# EAGLE library part FEATHERM4CAN (library FeatherCAN)
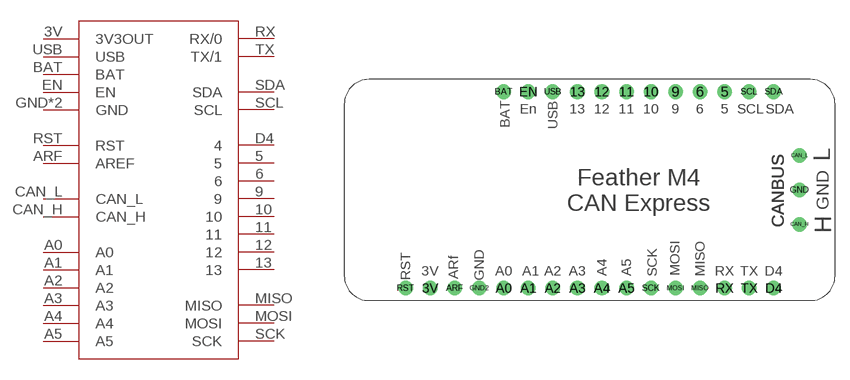
[diagram p0: symbol with the pads of FEATHERCAN; footprint FEATHERCAN]

Designator prefix -

## FEATHERM4CAN  [FEATHERCAN]
3V  3V3OUT
5  5
6  6
9  9
10  10
11  11
12  12
13  13
A0  A0
A1  A1
A2  A2
A3  A3
A4  A4
A5  A5
ARF  AREF
BAT  BAT
CAN_H  CAN_H
CAN_L  CAN_L
D4  4
EN  EN
GND  GND
GND2  GND
MISO  MISO
MOSI  MOSI
RST  RST
RX  RX/0
SCK  SCK
SCL  SCL
SDA  SDA
TX  TX/1
USB  USB

## Footprint FEATHERCAN (pad centres in mm)
drill 1: 3V -7.62,-10.16; 5 22.86,10.16; 6 20.32,10.16; 9 17.78,10.16; 10 15.24,10.16; 11 12.7,10.16; 12 10.16,10.16; 13 7.62,10.16; A0 0,-10.16; A1 2.54,-10.16; A2 5.08,-10.16; A3 7.62,-10.16; A4 10.16,-10.16; A5 12.7,-10.16; ARF -5.08,-10.16; BAT 0,10.16; CAN_H 30.607,-3.556; CAN_L 30.607,3.556; D4 27.94,-10.16; EN 2.54,10.16; GND 30.607,0; GND2 -2.54,-10.16; MISO 20.32,-10.16; MOSI 17.78,-10.16; RST -10.16,-10.16; RX 22.86,-10.16; SCK 15.24,-10.16; SCL 25.4,10.16; SDA 27.94,10.16; TX 25.4,-10.16; USB 5.08,10.16